# Altium footprint library ICS-43434.PcbLib: 1 footprints
Each footprint in its own frame and in the unit in brackets; x right, y up, seen from the top. Pads: shape width x height; smd on the part's side, far side on the other; paste and mask are expansions set on the pad; w line width, h text height; cw(c..) or ccw(c..) is an arc to the next point about the centre after c.
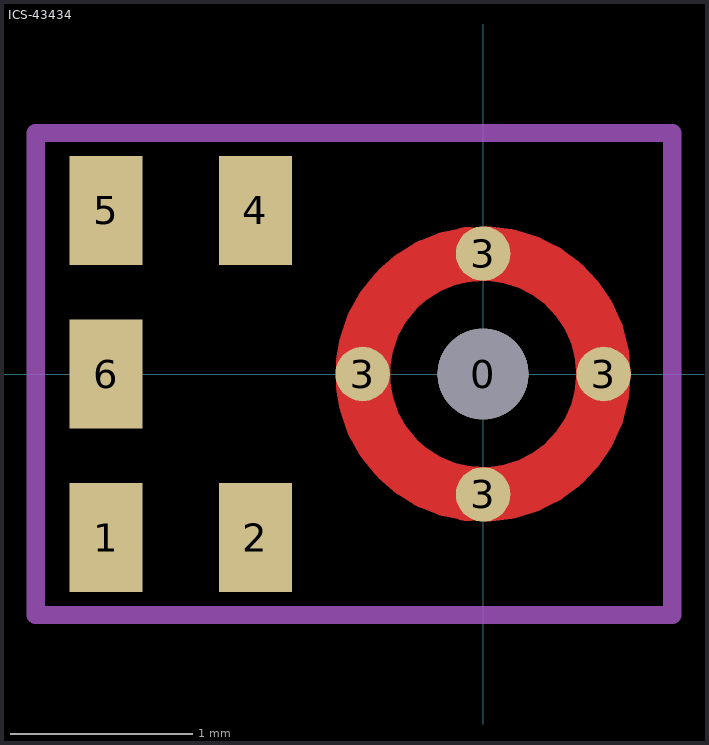
[diagram p0: the footprint, top view; thin cyan lines are the x and y axes]

## ICS-43434 [mm] "INVENSENSE MEMS DIGITAL MICROPHONE"
pads (10):
  round 0.5 hole 0.5 unplated paste-5 mask+0.775: 0(0,0)
  rect 0.4x0.6 smd: 1(-2.074,-0.9) 2(-1.252,-0.9) 4(-1.252,0.9) 5(-2.074,0.9) 6(-2.074,0)
  round 0.3 smd: 3(-0.663,0) 3(0,-0.663) 3(0.663,0)
  round 0.3 smd paste+0: 3(0,0.663)
Top Layer:
  circle w0.3: c0,0 r0.663
Mechanical 13:
  lines w0.1: -2.46,-1.325 1.04,-1.325 1.04,1.325 -2.46,1.325 -2.46,-1.325
3D body: height 1, standoff 0, extent -2.45,-1.325 1.04,1.325